# EAGLE library part HM-MOD-UART-AW-SH-2 (library homematic)
HM-MOD-UART-AW-SH-2
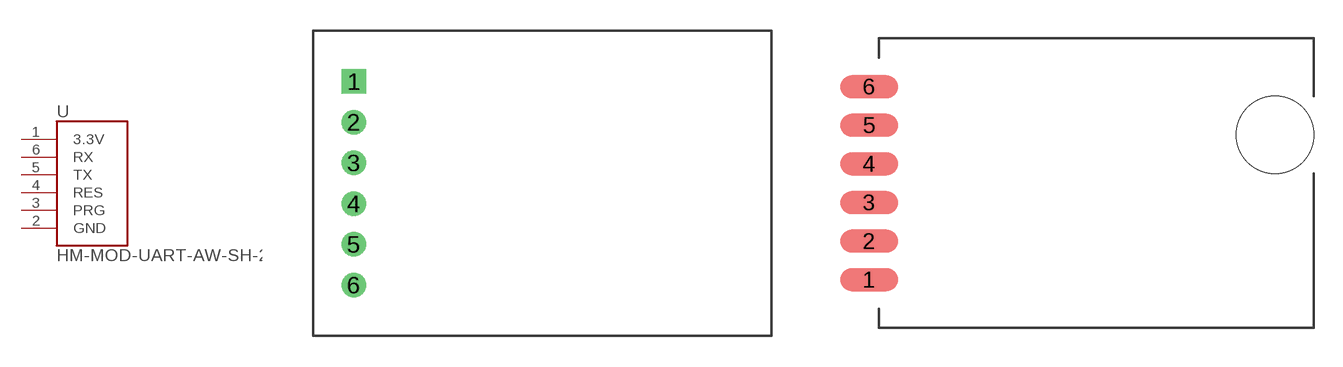
[diagram p6: symbol with the pads of HM-MOD-UART-AW-SH-2; footprints HM-MOD-UART-AW-SH-2, HM-MOD-UART-AW-SH-2_SMD]

Designator prefix U

## HM-MOD-UART-AW-SH-2_DIP (VALUE: HM-MOD-UART-AW-SH-2)  [HM-MOD-UART-AW-SH-2]
1  3.3V  pwr
2  GND  pwr
3  PRG  in
4  RES  in
5  TX  out
6  RX  in

## HM-MOD-UART-AW-SH-2_SMD (VALUE: HM-MOD-UART-AW-SH-2)  [HM-MOD-UART-AW-SH-2_SMD]
Pads as for HM-MOD-UART-AW-SH-2

## Footprint HM-MOD-UART-AW-SH-2 (pad centres in mm)
drill 0.6 pad 1.2 square: 1 2,5
drill 0.6 pad 1.2: 2 2,3; 3 2,1; 4 2,-1; 5 2,-3; 6 2,-5

## Footprint HM-MOD-UART-AW-SH-2_SMD (pad centres in mm)
smd 3 x 1.2: 1 -0.5,-5; 2 -0.5,-3; 3 -0.5,-1; 4 -0.5,1; 5 -0.5,3; 6 -0.5,5
hole 4 at 20.5,2.5